# Altium footprint library JST SM08B-GHS-TB.PCBLIB: 1 footprints
Each footprint in its own frame and in the unit in brackets; x right, y up, seen from the top. Pads: shape width x height; smd on the part's side, far side on the other; paste and mask are expansions set on the pad; w line width, h text height; cw(c..) or ccw(c..) is an arc to the next point about the centre after c.
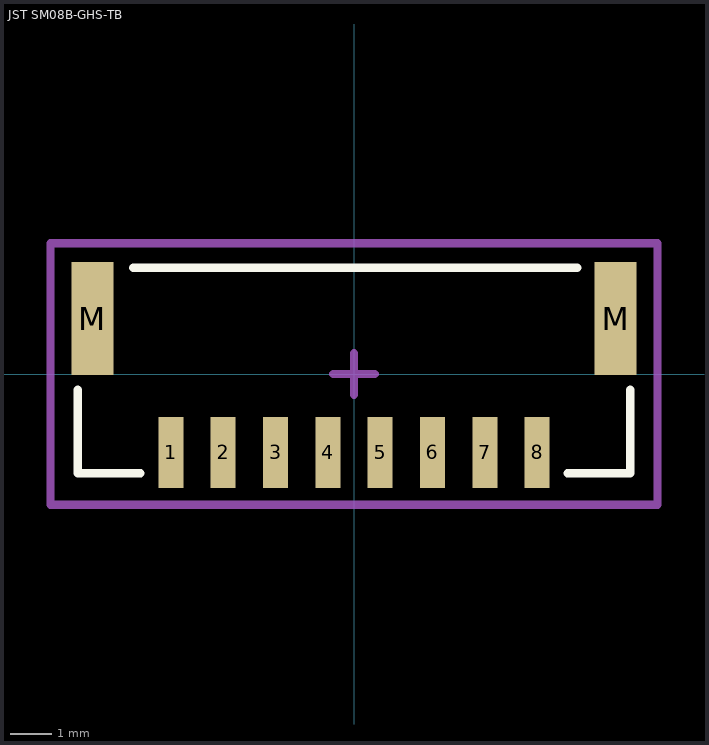
[diagram p0: the footprint, top view; thin cyan lines are the x and y axes]

## JST SM08B-GHS-TB [mm] "1.25mm pitch/Disconnectable Crimp style connectors"
height 4.35
pads (10):
  rect 0.6x1.7 smd: 1(-4.375,-1.875) 2(-3.125,-1.875) 3(-1.875,-1.875) 4(-0.625,-1.875) 5(0.625,-1.875) 6(1.875,-1.875) 7(3.125,-1.875) 8(4.375,-1.875)
  rect 1x2.7 smd: M(-6.25,1.325) M(6.25,1.325)
Top Overlay:
  lines w0.2: -6.6,-0.375 -6.6,-2.375 -5.1,-2.375 ; -5.274,2.54 5.334,2.54 ; 5.1,-2.375 6.6,-2.375 6.6,-0.375
Mechanical 15:
  lines w0.2: -0.5,0 0.5,0 ; 0,-0.5 0,0.5 ; -7.25,-3.125 -7.25,3.125 7.25,3.125 7.25,-3.125 -7.25,-3.125
3D body "JST SM08B-GHS-TB.STEP": height 4.35, standoff -0.05, extent -6.625,-2.31 6.625,2.54